# EAGLE library part SN74LVC1G3157 (library SN74LVC1G3157)
This single channel single-pole double-throw (SPDT) analog switch is designed for 1.65-V to 5.5-V VCC operation. The SN74LVC1G3157 device can handle both analog and digital signals. The SN74LVC1G3157 device permits signals with amplitudes of up to VCC (peak) to be transmitted in either direction. Applications include signal gating, chopping, modulation or demodulation (modem), and signal multiplexing for analog-to-digital and digital-to-analog conversion systems.
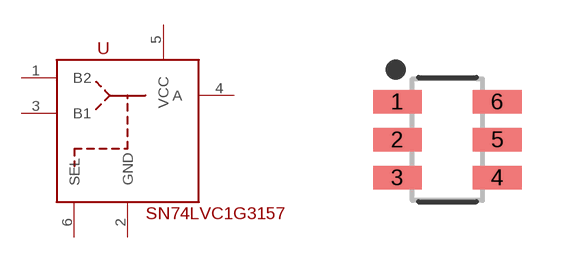
[diagram p0: symbol with the pads of SOT95P280X145-6N; footprint SOT95P280X145-6N]

Designator prefix -

## SN74LVC1G3157  [SOT95P280X145-6N]
1  B2
2  GND
3  B1
4  A
5  VCC
6  SEL

## Footprint SOT95P280X145-6N (pad centres in mm)
6-SOT23, 0.95 mm pitch, 2.80 mm span, 2.90 X 1.60 X 1.45 mm body 6-pin SOT23 package with 0.95 mm pitch, 2.80 mm span with body size 2.90 X 1.60 X 1.45 mm
smd 1.216 x 0.584: 1 -1.25,0.95; 2 -1.25,0; 3 -1.25,-0.95; 4 1.25,-0.95; 5 1.25,0; 6 1.25,0.95